# Altium schematic symbol library SemiConductor.SchLib: 127 symbols (part 1 of 2)
Pins are listed as number, name and electrical type; pins without a type are passive.

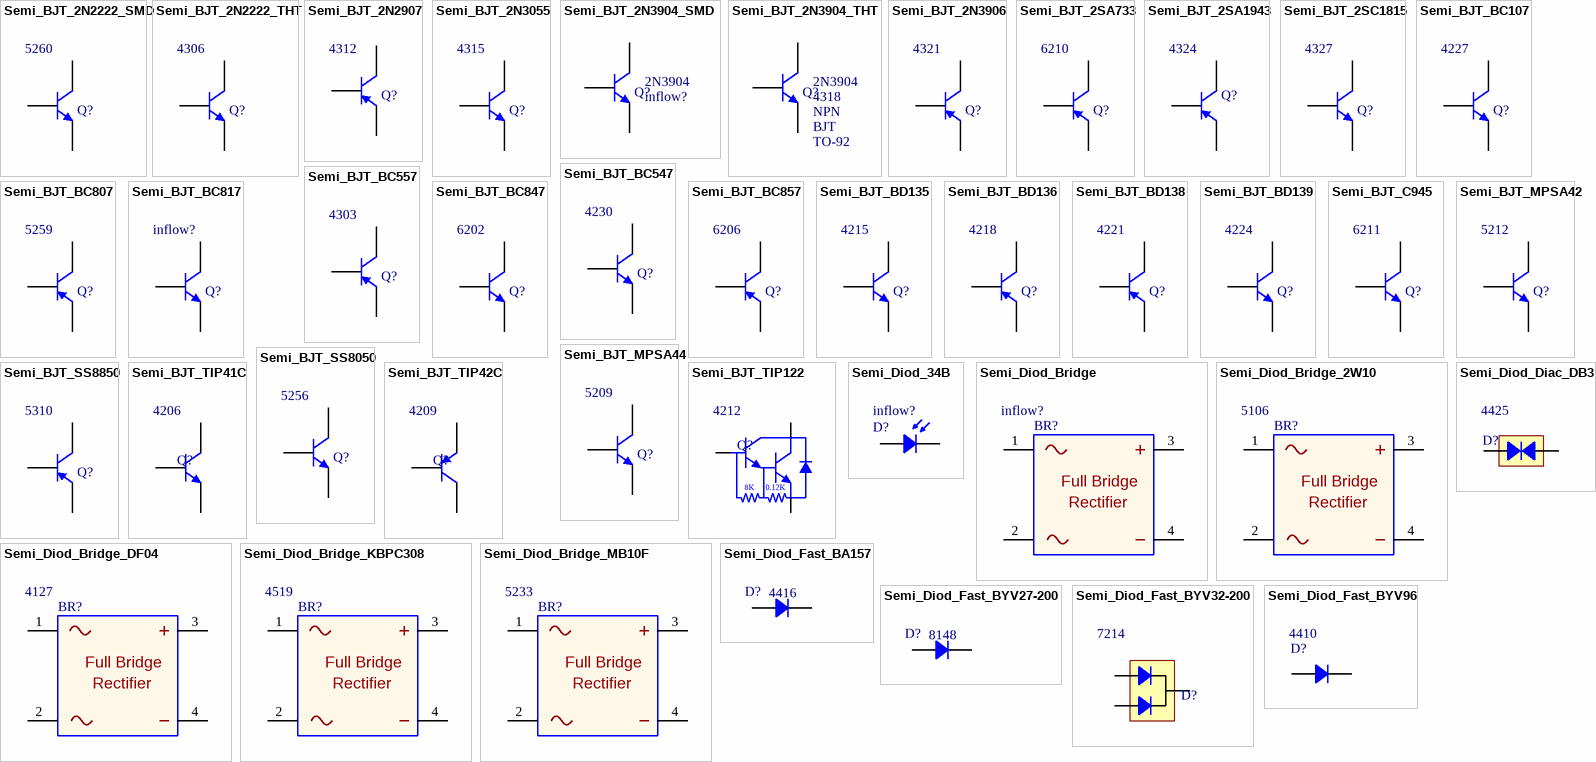
[diagram p0: symbols Semi_BJT_2N2222_SMD to Semi_Diod_Fast_BYV96]

## Semi_BJT_2N2222_SMD
designator Q?, comment Inflow: 5260  (hidden comment: NPN)
NPN Switching Transistors; Rating: Rating?; Type: Type?; Validation: Valid; Value: NPN; Package: Package?
footprint SOT23_N (SOT23, 3-Leads, Body 2.9x1.3mm, Pitch 0.95mm, Lead Span 2.3mm, IPC Medium Density)
footprint SOT23_L (SOT23, 3-Leads, Body 2.9x1.3mm, Pitch 0.95mm, Lead Span 2.3mm, IPC High Density)
footprint SOT23_M (SOT23, 3-Leads, Body 2.9x1.3mm, Pitch 0.95mm, Lead Span 2.3mm, IPC Low Density)
pins: 1 B, 2 E, 3 C

## Semi_BJT_2N2222_THT
designator Q?, comment Inflow: 4306  (hidden comment: NPN)
NPN Switching and AF amplifier applications; Rating: Rating?; Type: Type?; Validation: Valid; Value: NPN; Package: Package?
footprint TO-92 Bent (DESIGNER :ABBAS BASEREH)
footprint TO-92 CF (DESIGNER :ABBAS BASEREH)
footprint TO-92 STR (DESIGNER :ABBAS BASEREH)
pins: 1 E, 2 B, 3 C

## Semi_BJT_2N2907
designator Q?, comment Inflow: 4312  (hidden comment: PNP)
PNP General purpose amplifier; Rating: Rating?; Type: Type?; Validation: NT; Value: PNP; Package: Package?
footprint TO-92 Bent (DESIGNER :ABBAS BASEREH)
footprint TO-92 CF (DESIGNER :ABBAS BASEREH)
footprint TO-92 STR (DESIGNER :ABBAS BASEREH)
pins: 1 E, 2 B, 3 C

## Semi_BJT_2N3055
designator Q?, comment Inflow: 4315  (hidden comment: NPN)
NPN General purpose amplifier and switching applications; Rating: Rating?; Type: Type?; Validation: NT; Value: NPN; Package: Package?
footprint TO-3
pins: 1 E, 2 C, 3 B

## Semi_BJT_2N3904_SMD
designator Q?, comment Inflow: inflow?  (hidden comment: 2N3904)
NPN General purpose Transistor; Type: BJT; Validation: Valid; Package: SOT-23; Rating: NPN; Value: 2N3904
footprint SOT23_N (SOT23, 3-Leads, Body 2.9x1.3mm, Pitch 0.95mm, Lead Span 2.3mm, IPC Medium Density)
footprint SOT23_L (SOT23, 3-Leads, Body 2.9x1.3mm, Pitch 0.95mm, Lead Span 2.3mm, IPC High Density)
footprint SOT23_M (SOT23, 3-Leads, Body 2.9x1.3mm, Pitch 0.95mm, Lead Span 2.3mm, IPC Low Density)
pins: 1 B, 2 E, 3 C

## Semi_BJT_2N3904_THT
designator Q?, comment Type: BJT  Rating: NPN  Package: TO-92  Inflow: 4318  (hidden comment: 2N3904)
NPN General purpose amplifier; Validation: Valid; Value: 2N3904
footprint TO-92 Bent (DESIGNER :ABBAS BASEREH)
footprint TO-92 CF (DESIGNER :ABBAS BASEREH)
footprint TO-92 STR (DESIGNER :ABBAS BASEREH)
pins: 1 E, 2 B, 3 C

## Semi_BJT_2N3906
designator Q?, comment Inflow: 4321  (hidden comment: PNP)
PNP General Purpose Amplifier; Rating: Rating?; Type: Type?; Validation: NT; Value: PNP; Package: Package?
footprint TO-92 Bent (DESIGNER :ABBAS BASEREH)
footprint TO-92 CF (DESIGNER :ABBAS BASEREH)
footprint TO-92 STR (DESIGNER :ABBAS BASEREH)
pins: 1 E, 2 B, 3 C

## Semi_BJT_2SA733
designator Q?, comment Inflow: 6210  (hidden comment: PNP)
PNP Low frequncy amplifier; Rating: Rating?; Type: Type?; Validation: NT; Value: PNP; Package: Package?
footprint SOT23_N (SOT23, 3-Leads, Body 2.9x1.3mm, Pitch 0.95mm, Lead Span 2.3mm, IPC Medium Density)
footprint SOT23_L (SOT23, 3-Leads, Body 2.9x1.3mm, Pitch 0.95mm, Lead Span 2.3mm, IPC High Density)
footprint SOT23_M (SOT23, 3-Leads, Body 2.9x1.3mm, Pitch 0.95mm, Lead Span 2.3mm, IPC Low Density)
pins: 1 B, 2 E, 3 C

## Semi_BJT_2SA1943
designator Q?, comment Inflow: 4324  (hidden comment: PNP)
PNP Power amplifier applications; Rating: Rating?; Type: Type?; Validation: NT; Value: PNP; Package: Package?
footprint 2SA1943
pins: 1 B, 2 C, 3 E

## Semi_BJT_2SC1815
designator Q?, comment Inflow: 4327  (hidden comment: NPN)
NPN Audio frequency general purpose amplifier applications; Rating: Rating?; Type: Type?; Validation: NT; Value: NPN; Package: Package?
footprint TO-92 Bent (DESIGNER :ABBAS BASEREH)
footprint TO-92 CF (DESIGNER :ABBAS BASEREH)
footprint TO-92 STR (DESIGNER :ABBAS BASEREH)
pins: 1 B, 2 C, 3 E

## Semi_BJT_BC107
designator Q?, comment Inflow: 4227  (hidden comment: NPN)
NPN General purpose amplifier and switching applications; Rating: Rating?; Type: Type?; Validation: Valid; Value: NPN; Package: Package?
footprint TO-18 (Can; 3 Leads; Pin Circle Dia. 2.54 mm; Lead Dia. 0.48 mm (max))
pins: 1 E, 2 B, 3 C

## Semi_BJT_BC547
designator Q?, comment Inflow: 4230  (hidden comment: NPN)
NPN Switching; Rating: Rating?; Type: Type?; Validation: NT; Value: NPN; Package: Package?
footprint TO-92 Bent (DESIGNER :ABBAS BASEREH)
footprint TO-92 CF (DESIGNER :ABBAS BASEREH)
footprint TO-92 STR (DESIGNER :ABBAS BASEREH)
pins: 1 C, 2 B, 3 E

## Semi_BJT_BC557
designator Q?, comment Inflow: 4303  (hidden comment: PNP)
PNP Switching and Amplifier; Rating: Rating?; Type: Type?; Validation: NT; Value: PNP; Package: Package?
footprint TO-92 Bent (DESIGNER :ABBAS BASEREH)
footprint TO-92 CF (DESIGNER :ABBAS BASEREH)
footprint TO-92 STR (DESIGNER :ABBAS BASEREH)
pins: 1 C, 2 B, 3 E

## Semi_BJT_BC807
designator Q?, comment Inflow: 5259  (hidden comment: PNP)
PNP General purpose Transistor; Rating: Rating?; Type: Type?; Validation: NT; Value: PNP; Package: Package?
footprint SOT23_N (SOT23, 3-Leads, Body 2.9x1.3mm, Pitch 0.95mm, Lead Span 2.3mm, IPC Medium Density)
footprint SOT23_L (SOT23, 3-Leads, Body 2.9x1.3mm, Pitch 0.95mm, Lead Span 2.3mm, IPC High Density)
footprint SOT23_M (SOT23, 3-Leads, Body 2.9x1.3mm, Pitch 0.95mm, Lead Span 2.3mm, IPC Low Density)
pins: 1 B, 2 E, 3 C

## Semi_BJT_BC817
designator Q?, comment Inflow: inflow?  (hidden comment: NPN)
NPN General purpose Transistor; Rating: Rating?; Type: Type?; Validation: Valid; Value: NPN; Package: Package?
footprint SOT23_N (SOT23, 3-Leads, Body 2.9x1.3mm, Pitch 0.95mm, Lead Span 2.3mm, IPC Medium Density)
footprint SOT23_L (SOT23, 3-Leads, Body 2.9x1.3mm, Pitch 0.95mm, Lead Span 2.3mm, IPC High Density)
footprint SOT23_M (SOT23, 3-Leads, Body 2.9x1.3mm, Pitch 0.95mm, Lead Span 2.3mm, IPC Low Density)
pins: 1 B, 2 E, 3 C

## Semi_BJT_BC847
designator Q?, comment Inflow: 6202  (hidden comment: NPN)
NPN General purpose Transistor; Rating: Rating?; Type: Type?; Validation: NT; Value: NPN; Package: Package?
footprint SOT23_N (SOT23, 3-Leads, Body 2.9x1.3mm, Pitch 0.95mm, Lead Span 2.3mm, IPC Medium Density)
footprint SOT23_L (SOT23, 3-Leads, Body 2.9x1.3mm, Pitch 0.95mm, Lead Span 2.3mm, IPC High Density)
footprint SOT23_M (SOT23, 3-Leads, Body 2.9x1.3mm, Pitch 0.95mm, Lead Span 2.3mm, IPC Low Density)
pins: 1 B, 2 E, 3 C

## Semi_BJT_BC857
designator Q?, comment Inflow: 6206  (hidden comment: PNP)
PNP General purpose Transistor; Rating: Rating?; Type: Type?; Validation: NT; Value: PNP; Package: Package?
footprint SOT23_N (SOT23, 3-Leads, Body 2.9x1.3mm, Pitch 0.95mm, Lead Span 2.3mm, IPC Medium Density)
footprint SOT23_L (SOT23, 3-Leads, Body 2.9x1.3mm, Pitch 0.95mm, Lead Span 2.3mm, IPC High Density)
footprint SOT23_M (SOT23, 3-Leads, Body 2.9x1.3mm, Pitch 0.95mm, Lead Span 2.3mm, IPC Low Density)
pins: 1 B, 2 E, 3 C

## Semi_BJT_BD135
designator Q?, comment Inflow: 4215  (hidden comment: NPN)
NPN Medium power linear and switching applications; Rating: Rating?; Type: Type?; Validation: NT; Value: NPN; Package: Package?
footprint TO-126 (SOT32) GOLD pcb (Design:Abbas Basereh)
footprint TO-126 (SOT32) GOLD pcb with hatsink (Design:Abbas Basereh)
pins: 1 E, 2 C, 3 B

## Semi_BJT_BD136
designator Q?, comment Inflow: 4218  (hidden comment: PNP)
PNP General purpose complementary low voltage transistor; Rating: Rating?; Type: Type?; Validation: NT; Value: PNP; Package: Package?
footprint TO-126 (SOT32) GOLD pcb (Design:Abbas Basereh)
footprint TO-126 (SOT32) GOLD pcb with hatsink (Design:Abbas Basereh)
pins: 1 E, 2 C, 3 B

## Semi_BJT_BD138
designator Q?, comment Inflow: 4221  (hidden comment: PNP)
PNP Medium power linear and switching applications; Rating: Rating?; Type: Type?; Validation: NT; Value: PNP; Package: Package?
footprint TO-126 (SOT32) GOLD pcb (Design:Abbas Basereh)
footprint TO-126 (SOT32) GOLD pcb with hatsink (Design:Abbas Basereh)
pins: 1 E, 2 C, 3 B

## Semi_BJT_BD139
designator Q?, comment Inflow: 4224  (hidden comment: NPN)
NPN Medium power linear and switching applications; Rating: Rating?; Type: Type?; Validation: NT; Value: NPN; Package: Package?
footprint TO-126 (SOT32) GOLD pcb (Design:Abbas Basereh)
footprint TO-126 (SOT32) GOLD pcb with hatsink (Design:Abbas Basereh)
pins: 1 E, 2 C, 3 B

## Semi_BJT_C945
designator Q?, comment Inflow: 6211  (hidden comment: NPN)
NPN Silicon Epitaxial Planar Transistor; Rating: Rating?; Type: Type?; Validation: NT; Value: NPN; Package: Package?
footprint SOT23_N (SOT23, 3-Leads, Body 2.9x1.3mm, Pitch 0.95mm, Lead Span 2.3mm, IPC Medium Density)
footprint SOT23_L (SOT23, 3-Leads, Body 2.9x1.3mm, Pitch 0.95mm, Lead Span 2.3mm, IPC High Density)
footprint SOT23_M (SOT23, 3-Leads, Body 2.9x1.3mm, Pitch 0.95mm, Lead Span 2.3mm, IPC Low Density)
pins: 1 B, 2 E, 3 C

## Semi_BJT_MPSA42
designator Q?, comment Inflow: 5212  (hidden comment: NPN)
NPN High voltage transistor; Rating: Rating?; Type: Type?; Validation: NT; Value: NPN; Package: Package?
footprint TO-92 Bent (DESIGNER :ABBAS BASEREH)
footprint TO-92 CF (DESIGNER :ABBAS BASEREH)
footprint TO-92 STR (DESIGNER :ABBAS BASEREH)
pins: 1 E, 2 B, 3 C

## Semi_BJT_MPSA44
designator Q?, comment Inflow: 5209  (hidden comment: NPN)
NPN High voltage transistor; Rating: Rating?; Type: Type?; Validation: NT; Value: NPN; Package: Package?
footprint TO-92 Bent (DESIGNER :ABBAS BASEREH)
footprint TO-92 CF (DESIGNER :ABBAS BASEREH)
footprint TO-92 STR (DESIGNER :ABBAS BASEREH)
pins: 1 E, 2 B, 3 C

## Semi_BJT_SS8050
designator Q?, comment Inflow: 5256  (hidden comment: NPN)
NPN General purpose Transistor; Rating: Rating?; Type: Type?; Validation: Valid; Value: NPN; Package: Package?
footprint SOT23_N (SOT23, 3-Leads, Body 2.9x1.3mm, Pitch 0.95mm, Lead Span 2.3mm, IPC Medium Density)
footprint SOT23_L (SOT23, 3-Leads, Body 2.9x1.3mm, Pitch 0.95mm, Lead Span 2.3mm, IPC High Density)
footprint SOT23_M (SOT23, 3-Leads, Body 2.9x1.3mm, Pitch 0.95mm, Lead Span 2.3mm, IPC Low Density)
pins: 1 B, 2 E, 3 C

## Semi_BJT_SS8850
designator Q?, comment Inflow: 5310  (hidden comment: PNP)
PNP General Purpose Amplifier; Rating: Rating?; Type: Type?; Validation: NT; Value: PNP; Package: Package?
footprint TO-92 Bent (DESIGNER :ABBAS BASEREH)
footprint TO-92 CF (DESIGNER :ABBAS BASEREH)
footprint TO-92 STR (DESIGNER :ABBAS BASEREH)
pins: 1 E, 2 C, 3 B

## Semi_BJT_TIP41C
designator Q?, comment Inflow: 4206  (hidden comment: NPN)
NPN Power transistor; Rating: Rating?; Type: Type?; Validation: NT; Value: NPN; Package: Package?
footprint TO-220 AB WITH HEAT SINK (Epoxy meets UL94, V0)
footprint TO-220 AB (Epoxy meets UL94, V0)
footprint TO-220 AB S (Epoxy meets UL94, V0)
footprint TO-220 AB WITH HEAT SINK ASM
footprint TO-220 AB with heatsink ya25 (Epoxy meets UL94, V0-Design:Abbas Basereh)
pins: 1 B, 2 C, 3 E

## Semi_BJT_TIP42C
designator Q?, comment Inflow: 4209  (hidden comment: PNP)
PNP Power transistor; Rating: Rating?; Type: Type?; Validation: NT; Value: PNP; Package: Package?
footprint TO-220 AB WITH HEAT SINK (Epoxy meets UL94, V0)
footprint TO-220 AB (Epoxy meets UL94, V0)
footprint TO-220 AB S (Epoxy meets UL94, V0)
footprint TO-220 AB WITH HEAT SINK ASM
footprint TO-220 AB with heatsink ya25 (Epoxy meets UL94, V0-Design:Abbas Basereh)
pins: 1 B, 2 C, 3 E

## Semi_BJT_TIP122
designator Q?, comment Inflow: 4212  (hidden comment: NPN)
NPN Power transistor; Rating: Rating?; Type: Type?; Validation: NT; Value: NPN; Package: Package?
footprint TO-220 AB WITH HEAT SINK (Epoxy meets UL94, V0)
footprint TO-220 AB (Epoxy meets UL94, V0)
footprint TO-220 AB S (Epoxy meets UL94, V0)
footprint TO-220 AB WITH HEAT SINK ASM
footprint TO-220 AB with heatsink ya25 (Epoxy meets UL94, V0-Design:Abbas Basereh)
pins: 1 B, 2 C, 3 E
text: 8K; 0.12K

## Semi_Diod_34B
designator D?, comment Inflow: inflow?  (hidden comment: Value?)
Photodiode; Rating: Rating?; Type: Type?; Validation: NT; Value: Value?; Package: Package?
footprint 34b
pins: 1, 2

## Semi_Diod_Bridge
designator BR?, comment Inflow: inflow?  (hidden comment: Value?)
Full Wave Diode Bridge; Rating: Rating?; Validation: Valid; Value: Value?; Package: Package?; Type: Type?
footprint DB107
footprint KBL4 (6mm; 19mm)
footprint Pool1
footprint Pool2
footprint Pool 3
footprint D-38 (Bridge Rectifier; 4 Terminals; Body 9.4 x 9.4 mm (typ); Pitch 5.08 mm)
footprint D-46_6A (Bridge Rectifier; 4 Terminals; Body 16.8 x 16.8 mm (typ); Pitch 10.67 mm)
footprint Bridge
footprint Diode bridge
footprint Bridge GBU PACKAGE (GBU Bridge Rectifiers DESIGNER :ABBAS BASEREH)
footprint Bridge KBJ PACKAGE (KBJ Bridge Rectifiers DESIGNER :ABBAS BASEREH)
footprint Bridge KBL PACKAGE (KBL Bridge Rectifiers DESIGNER :ABBAS BASEREH)
footprint Bridge KBP PACKAGE (KBP Bridge Rectifiers DESIGNER :ABBAS BASEREH)
footprint Bridge KBU PACKAGE (KBU Bridge Rectifiers DESIGNER :ABBAS BASEREH)
footprint Bridge WOB PACKAGE (WOB Bridge Rectifiers DESIGNER :ABBAS BASEREH)
footprint DF005S (MINIATURE GLASS PASSIVATED SINGLE-PHASE SURFACE MOUNT  BRIDGE RECTIFIER-Design:Abbas Basereh)
pins: 1 VIN, 2 VIN, 3 OUT, 4 OUT
text: Full Bridge; Rectifier

## Semi_Diod_Bridge_2W10
designator BR?, comment Inflow: 5106  (hidden comment: 1000'V, 1.5'A)
Full Wave Diode Bridge; Rating: Rating?; Validation: Valid; Value: 1000'V, 1.5'A; Package: Package?; Type: Type?
footprint Bridge
pins: 1 VIN, 2 VIN, 3 OUT, 4 OUT
text: Full Bridge; Rectifier

## Semi_Diod_Bridge_DF04
designator BR?, comment Inflow: 4127  (hidden comment: 400'V, 1'A)
Full Wave Diode Bridge; Rating: Rating?; Validation: Valid; Value: 400'V, 1'A; Package: Package?; Type: Type?
footprint DB107
pins: 1 VIN, 2 VIN, 3 OUT, 4 OUT
text: Full Bridge; Rectifier

## Semi_Diod_Bridge_KBPC308
designator BR?, comment Inflow: 4519  (hidden comment: 800'V, 3'A)
Full Wave Diode Bridge; Rating: Rating?; Validation: NT; Value: 800'V, 3'A; Package: Package?; Type: Type?
footprint D-46_6A (Bridge Rectifier; 4 Terminals; Body 16.8 x 16.8 mm (typ); Pitch 10.67 mm)
pins: 1 VIN, 2 VIN, 3 OUT, 4 OUT
text: Full Bridge; Rectifier

## Semi_Diod_Bridge_MB10F
designator BR?, comment Inflow: 5233  (hidden comment: 1000'V, 0.8'A)
Full Wave Diode Bridge; Rating: Rating?; Validation: NT; Value: 1000'V, 0.8'A; Package: Package?; Type: Type?
footprint DF005S (MINIATURE GLASS PASSIVATED SINGLE-PHASE SURFACE MOUNT  BRIDGE RECTIFIER-Design:Abbas Basereh)
pins: 1 VIN, 2 VIN, 3 OUT, 4 OUT
text: Full Bridge; Rectifier

## Semi_Diod_Diac_DB3
designator D?, comment Inflow: 4425  (hidden comment: DB3)
Schottky Rectifiers; Rating: Rating?; Type: Type?; Validation: NT; Value: DB3; Package: Package?
footprint Do 35 (Diode)
pins: 1, 2

## Semi_Diod_Fast_BA157
designator D?, comment Inflow: 4416  (hidden comment: BA157)
Fast switching rectifiers; Rating: Rating?; Type: Type?; Validation: NT; Value: BA157; Package: Package?
footprint Do-41 (Diode, Axial; Body 5.2 x 2.7 mm (LxDia. max), Lead Dia. 0.86 mm (max))
pins: 1, 2

## Semi_Diod_Fast_BYV27-200
designator D?, comment Inflow: 8148  (hidden comment: BYV27-200)
Ultra fast low-loss controlled avalanche rectifiers; Rating: Rating?; Type: Type?; Validation: NT; Value: BYV27-200; Package: Package?
footprint Diode (Diode, Axial; Body 5.2 x 2.7 mm (LxDia. max), Lead Dia. 0.86 mm (max))
pins: 1, 2

## Semi_Diod_Fast_BYV32-200
designator D?, comment Inflow: 7214  (hidden comment: BYV32-200)
Fast switching rectifiers; Rating: Rating?; Type: Type?; Validation: NT; Value: BYV32-200; Package: Package?
footprint TO-220 AB (Epoxy meets UL94, V0-Design:Abbas Basereh)
footprint TO-220 AB S (Epoxy meets UL94, V0-Design:Abbas Basereh)
footprint TO-220 AB WITH HEAT SINK (Epoxy meets UL94, V0-Design:Abbas Basereh)
footprint TO-220 AB WITH HEAT SINK ASM (-Design:Abbas Basereh)
footprint TO-220 AB with heatsink ya25 (Epoxy meets UL94, V0-Design:Abbas Basereh)
pins: 1, 2, 3

## Semi_Diod_Fast_BYV96
designator D?, comment Inflow: 4410  (hidden comment: BYV96)
Fast soft recovery controlled avalanche rectifiers; Rating: Rating?; Type: Type?; Validation: NT; Value: BYV96; Package: Package?
footprint DO-201AD - vertical (Designer Abbas Basereh)
footprint BYW98
pins: 1, 2

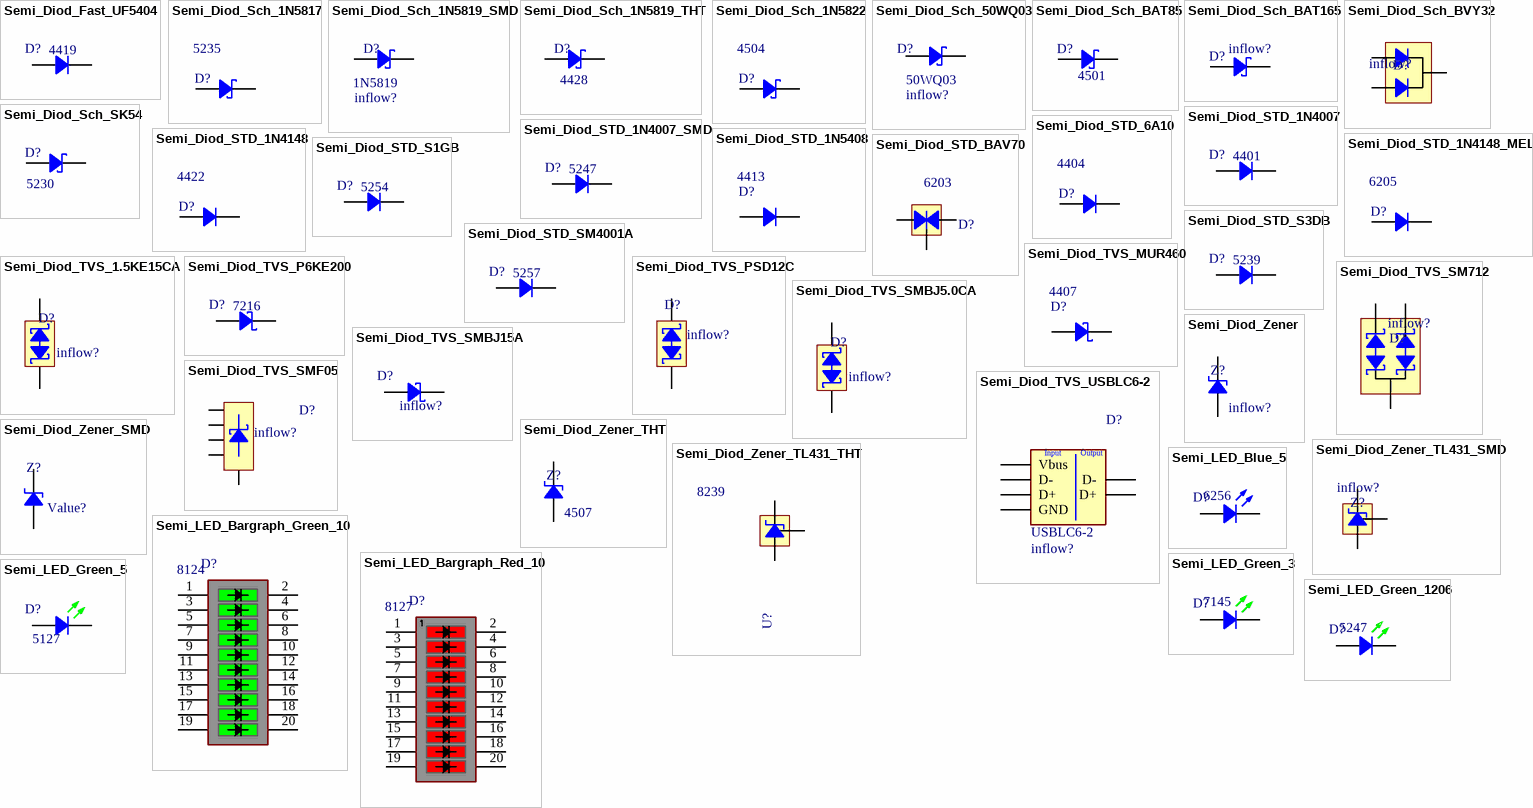
[diagram p1: symbols Semi_Diod_Fast_UF5404 to Semi_LED_Green_1206]

## Semi_Diod_Fast_UF5404
designator D?, comment Inflow: 4419  (hidden comment: UF5404)
Fast switching rectifiers; Rating: Rating?; Type: Type?; Validation: NT; Value: UF5404; Package: Package?
footprint Do-201AD - vertical (Designer Abbas Basereh)
footprint BYW98
pins: 1, 2

## Semi_Diod_Sch_1N5817
designator D?, comment Inflow: 5235  (hidden comment: 1N5817)
Schottky Rectifiers; Rating: Rating?; Type: Type?; Validation: NT; Value: 1N5817; Package: Package?
footprint DO214AC SMA (Molded Diode, 2-Leads, Body 4.30x2.60mm, IPC Medium Density)
pins: 1, 2

## Semi_Diod_Sch_1N5819_SMD
designator D?, comment Inflow: inflow?  (hidden comment: 1N5819)
Schottky Rectifiers; Rating: Rating?; Validation: Valid; Package: SMA; Type: Schottky; Value: 1N5819
footprint 430X270D (SMA Molded Diode, 2-Leads, Body 4.3x2.7mm)
footprint diode (Diode, Axial; Body 5.2 x 2.7 mm (LxDia. max), Lead Dia. 0.86 mm (max))
pins: 1, 2

## Semi_Diod_Sch_1N5819_THT
designator D?, comment Inflow: 4428  (hidden comment: 1N5819)
Schottky Rectifiers; Rating: Rating?; Validation: NT; Value: 1N5819; Package: Dip; Type: Schottky
footprint 430X270D (SMA Molded Diode, 2-Leads, Body 4.3x2.7mm)
footprint diode (Diode, Axial; Body 5.2 x 2.7 mm (LxDia. max), Lead Dia. 0.86 mm (max))
pins: 1, 2

## Semi_Diod_Sch_1N5822
designator D?, comment Inflow: 4504  (hidden comment: 1N5822)
Schottky Rectifiers; Rating: Rating?; Type: Type?; Validation: NT; Value: 1N5822; Package: Package?
footprint DIOM7568X24N (Molded Diode, 2-Leads, Body 7/50x6/80mm, IPC Medium Density)
footprint DO-214AB(SMC) (Molded Diode, 2-Leads, Body 6/85x5/90mm, IPC Medium Density DESIGNER ABBAS BASEREH)
footprint BYW98
footprint DO-201AD - vertical (Designer Abbas Basereh)
pins: 1, 2

## Semi_Diod_Sch_50WQ03
designator D?, comment Inflow: inflow?  (hidden comment: 50WQ03)
Fast soft recovery power rectifier; Rating: Rating?; Type: Schottky; Validation: NT; Package: TO-252; Value: 50WQ03
footprint 50WQ03 (D-PAK/TO-252-AA; 3 Leads (1 Cropped); Body 10.1 (inc. leads) x 6.6 mm (LxW max))
pins: 1, 2

## Semi_Diod_Sch_BAT85
designator D?, comment Inflow: 4501  (hidden comment: BAT85)
Schottky Rectifiers; Rating: Rating?; Validation: NT; Value: BAT85; Package: DO-35; Type: Schottky
footprint Do 35 (Diode)
pins: 1, 2

## Semi_Diod_Sch_BAT165
designator D?, comment Inflow: inflow?  (hidden comment: BAT165)
Schottky Rectifiers; Rating: Rating?; Type: Type?; Validation: NT; Value: BAT165; Package: Package?
footprint SOD323 (SOD-323; 2 Leads; Body 1.8 x 1.35 mm, (LxW))
pins: 1, 2

## Semi_Diod_Sch_BVY32
designator D?, comment Inflow: inflow?  (hidden comment: BYV32-200)
Fast soft recovery power rectifier; Rating: Rating?; Type: Type?; Validation: Valid; Value: BYV32-200; Package: Package?
footprint TO-220 AB (Epoxy meets UL94, V0)
footprint TO-220 AB S (Epoxy meets UL94, V0)
footprint TO-220 AB WITH HEAT SINK (Epoxy meets UL94, V0)
footprint TO-220 AB WITH HEAT SINK ASM
footprint TO-220 AB with heatsink ya25 (Epoxy meets UL94, V0-Design:Abbas Basereh)
pins: 1, 2, 3

## Semi_Diod_Sch_SK54
designator D?, comment Inflow: 5230  (hidden comment: SK54)
Schottky Rectifiers; Rating: Rating?; Validation: Valid; Type: Schottky; Package: SMC; Value: SK54
footprint DO-214AB(SMC) (Molded Diode, 2-Leads, Body 6/85x5/90mm, IPC Medium Density DESIGNER ABBAS BASEREH)
pins: 1, 2

## Semi_Diod_STD_1N4007
designator D?, comment Inflow: 4401  (hidden comment: 1N4007)
General purpose rectifiers; Rating: Rating?; Type: Type?; Validation: Valid; Value: 1N4007; Package: Package?
footprint SOD123F (SODFL, 2-Leads, Body 1.60x3.50mm, IPC Medium Density)
footprint SOD323F (SODFL, 2-Leads, Body 1.25x2.50mm, IPC Medium Density)
footprint SOD523F (SODFL, 2-Leads, Body 0.80x1.60mm, IPC Medium Density)
footprint SOD-123 (SOD, 2-Leads, Body 1.55x3.70mm, IPC Medium Density)
footprint DO214AB SMC (Molded Diode, 2-Leads, Body 6.85x5.90mm, IPC Medium Density)
footprint DO214AC SMA (Molded Diode, 2-Leads, Body 4.30x2.60mm, IPC Medium Density)
footprint Diode (Diode, Axial; Body 5.2 x 2.7 mm (LxDia. max), Lead Dia. 0.86 mm (max))
footprint Diode_SS34
footprint DO214AA SMB (Molded Diode, 2-Leads, Body 4.31x3.62mm, IPC Medium Density)
pins: 1, 2

## Semi_Diod_STD_1N4007_SMD
designator D?, comment Inflow: 5247  (hidden comment: 1N4007)
General purpose rectifiers; Rating: Rating?; Type: Type?; Validation: Valid; Value: 1N4007; Package: Package?
footprint DO214AC SMA (Molded Diode, 2-Leads, Body 4.30x2.60mm, IPC Medium Density)
pins: 1, 2

## Semi_Diod_STD_1N4148
designator D?, comment Inflow: 4422  (hidden comment: 1N4148)
High Conductance Fast Diode; Rating: Rating?; Type: Type?; Validation: NT; Value: 1N4148; Package: Package?
footprint DO-35 (Diode, Axial; Body 3.8 x 1.9 mm (LxDia. max), Lead Dia. 0.53 mm (max))
footprint LL4148 (MELF Diode, 2-Leads, Body 3.5x1.4mm, IPC Medium Density)
footprint Do 35 (Diode)
footprint SOD323 (SOD-323; 2 Leads; Body 1.8 x 1.35 mm, (LxW))
footprint SOD123 (SOD-123; 2 Leads; Body 2.7 x 1.6 mm, (LxW))
footprint SOD80, LL-34 (Diode, MiniMELF)
pins: 1, 2

## Semi_Diod_STD_1N4148_MELF
designator D?, comment Inflow: 6205  (hidden comment: 1N4148)
High Conductance Fast Diode; Rating: Rating?; Type: Type?; Validation: NT; Value: 1N4148; Package: Package?
footprint LL4148 (MELF Diode, 2-Leads, Body 3.5x1.4mm, IPC Medium Density)
pins: 1, 2

## Semi_Diod_STD_1N5408
designator D?, comment Inflow: 4413  (hidden comment: 1N5408)
General purpose rectifiers; Rating: Rating?; Type: Type?; Validation: NT; Value: 1N5408; Package: Package?
footprint 1N5408
footprint 1N5408 DO-201AD (Designer Abbas Basereh)
footprint DO-201AD - vertical (Designer Abbas Basereh)
footprint DO-201AD (Diode, Axial; Body 9.5 x 5.6 mm (LxDia. max), Lead Dia. 1.32 mm (max))
pins: 1, 2

## Semi_Diod_STD_6A10
designator D?, comment Inflow: 4404  (hidden comment: 6A10)
3 Amp General Purpose Rectifier; Rating: Rating?; Type: Type?; Validation: Valid; Value: 6A10; Package: Package?
footprint R-6
pins: 1, 2

## Semi_Diod_STD_BAV70
designator D?, comment Inflow: 6203  (hidden comment: BAV70)
General purpose rectifiers; Rating: Rating?; Type: Type?; Validation: NT; Value: BAV70; Package: Package?
footprint SOT23_BEC_N (SOT23, 3-Leads, Body 2.9x1.3mm, Pitch 0.95mm, Lead Span 2.4mm, IPC Medium Density)
footprint SOT23_BEC_L (SOT23, 3-Leads, Body 2.9x1.3mm, Pitch 0.95mm, Lead Span 2.4mm, IPC High Density)
footprint SOT23_BEC_M (SOT23, 3-Leads, Body 2.9x1.3mm, Pitch 0.95mm, Lead Span 2.4mm, IPC Low Density)
pins: 1, 2, 3

## Semi_Diod_STD_S1GB
designator D?, comment Inflow: 5254  (hidden comment: S1GB)
General purpose rectifiers; Rating: Rating?; Type: Type?; Validation: NT; Value: S1GB; Package: Package?
footprint DO214AA SMB (Molded Diode, 2-Leads, Body 4.31x3.62mm, IPC Medium Density)
pins: 1, 2

## Semi_Diod_STD_S3DB
designator D?, comment Inflow: 5239  (hidden comment: S3DB)
General purpose rectifiers; Rating: Rating?; Type: Type?; Validation: NT; Value: S3DB; Package: Package?
footprint DO214AA SMB (Molded Diode, 2-Leads, Body 4.31x3.62mm, IPC Medium Density)
pins: 1, 2

## Semi_Diod_STD_SM4001A
designator D?, comment Inflow: 5257  (hidden comment: SM4001A)
General purpose rectifiers; Rating: Rating?; Type: Type?; Validation: NT; Value: SM4001A; Package: Package?
footprint DO214AC SMA (Molded Diode, 2-Leads, Body 4.30x2.60mm, IPC Medium Density)
pins: 1, 2

## Semi_Diod_TVS_1.5KE15CA
designator D?, comment Inflow: inflow?  (hidden comment: 1.5KE15CA)
TVS Diode; Rating: 15V; Validation: Valid; Value: 1.5KE15CA; Package: TO-92; Type: TVS
footprint DO-201AD (Diode, Axial; Body 9.5 x 5.6 mm (LxDia. max), Lead Dia. 1.32 mm (max))
pins: 1, 2

## Semi_Diod_TVS_MUR460
designator D?, comment Inflow: 4407  (hidden comment: MUR460)
TVS Diode; Rating: Rating?; Type: Type?; Validation: NT; Value: MUR460; Package: Package?
footprint DO-201AD - vertical (Designer Abbas Basereh)
footprint BYW98
pins: 1, 2

## Semi_Diod_TVS_P6KE200
designator D?, comment Inflow: 7216  (hidden comment: P6KE200)
Transil diodes provide high overvoltage protection by clamping action; Rating: Rating?; Type: Type?; Validation: NT; Value: P6KE200; Package: Package?
footprint DO-15
pins: 1, 2

## Semi_Diod_TVS_PSD12C
designator D?, comment Inflow: inflow?  (hidden comment: PSD12C)
Transil diodes provide high overvoltage protection by clamping action; Rating: 12V; Type: TVS; Validation: NT; Value: PSD12C; Package: SMB
footprint SOD323 (SOD-323; 2 Leads; Body 1.8 x 1.35 mm, (LxW))
pins: 1, 2

## Semi_Diod_TVS_SM712
designator D?, comment Inflow: inflow?  (hidden comment: SM712)
TVS, ESD PROTECT, 2CH, 400W/17A PP, 7.5VBR, ±8KV ESDmin; Rating: Rating?; Type: Type?; Validation: Valid; Value: SM712; Package: Package?
footprint SOT23_L (SOT23, 3-Leads, Body 2.9x1.3mm, Pitch 0.95mm, Lead Span 2.3mm, IPC High Density)
footprint SOT23_N (SOT23, 3-Leads, Body 2.9x1.3mm, Pitch 0.95mm, Lead Span 2.3mm, IPC Medium Density)
footprint SOT23_M (SOT23, 3-Leads, Body 2.9x1.3mm, Pitch 0.95mm, Lead Span 2.3mm, IPC Low Density)
pins: 1, 2, 3

## Semi_Diod_TVS_SMBJ5.0CA
designator D?, comment Inflow: inflow?  (hidden comment: SMBJ5.0CA)
TVS Diode; Rating: 5V; Validation: Valid; Value: SMBJ5.0CA; Package: SMA; Type: TVS
footprint DO-214AC (DO-214AC(SMA) Package)
pins: 1, 2

## Semi_Diod_TVS_SMBJ15A
designator D?, comment Inflow: inflow?  (hidden comment: SMBJ15A)
Transil diodes provide high overvoltage protection by clamping action; Rating: 15V; Type: TVS; Validation: Valid; Value: SMBJ15A; Package: SMB
footprint DO214AA SMB (Molded Diode, 2-Leads, Body 4.31x3.62mm, IPC Medium Density)
pins: 1, 2

## Semi_Diod_TVS_SMF05
designator D?, comment Inflow: inflow?  (hidden comment: SMF-05)
TVS Diode Array; Rating: Rating?; Validation: Valid; Type: TVS; Value: SMF-05; Package: SC70-5
footprint SC70-5_N (SOT353, 5-Leads, Body 2x1.3mm, Pitch 0.65mm, Lead Span 2.1mm, IPC Medium Density)
pins: 1 K, 2 K, 3 K, 4 K, 5 K

## Semi_Diod_TVS_USBLC6-2
designator D?, comment Inflow: inflow?  (hidden comment: USBLC6-2)
Very low capacitance ESD protection; Rating: 5V; Type: TVS; Validation: NT; Package: SOT-23; Value: USBLC6-2
footprint SOT666 (SOP, 6-Flat Leads, Body 1.6x1.6x0.6mm, inc leads (LxWxH typ), Pitch 0.5mm, ST Recommended)
pins: 1 D+, 2 GND, 3 D-, 4 D-, 5 Vbus, 6 D+
text: Input; Output

## Semi_Diod_Zener
designator Z?, comment Inflow: inflow?  (hidden comment: Value?)
Zener Diode; Rating: Rating?; Validation: Valid; Value: Value?; Package: Package?; Type: Type?
footprint Diode 1W
footprint Diode 1W_Stand
footprint SOD123F (SODFL, 2-Leads, Body 1.60x3.50mm, IPC Medium Density)
footprint DO-35 (Diode, Axial; Body 3.8 x 1.9 mm (LxDia. max), Lead Dia. 0.53 mm (max))
footprint DO 35 (Diode)
footprint SOD123 (SOD-123; 2 Leads; Body 2.7 x 1.6 mm, (LxW))
footprint SOD323 (SOD-323; 2 Leads; Body 1.8 x 1.35 mm, (LxW))
footprint SOD80, LL-34 (Diode, MiniMELF)
pins: 1, 2

## Semi_Diod_Zener_SMD
designator Z?, comment Value?
Zener Diode; Rating: Rating?; Inflow: inflow?; Validation: Valid; Type: Zener; Package: SOD-80; Value: Value?
footprint SOD80, LL-34 (Diode, MiniMELF)
pins: 1, 2

## Semi_Diod_Zener_THT
designator Z?, comment Inflow: 4507  (hidden comment: 3.3'V, 0.5'W)
Zener Diode; Rating: Rating?; Validation: Valid; Value: 3.3'V, 0.5'W; Package: Package?; Type: Type?
footprint DO 35 (Diode)
pins: 1, 2

## Semi_Diod_Zener_TL431_SMD
designator Z?, comment Inflow: inflow?  (hidden comment: TL431 (Texas))
VREF, Programmable Precision ( Texas); Rating: Rating?; Validation: Valid; Value: TL431 (Texas); Package: Package?; Type: Type?
footprint sot23_BeC_L (SOT23, 3-Leads, Body 2.9x1.3mm, Pitch 0.95mm, Lead Span 2.4mm, IPC High Density)
footprint sot23_BeC_N (SOT23, 3-Leads, Body 2.9x1.3mm, Pitch 0.95mm, Lead Span 2.4mm, IPC Medium Density)
footprint sot23_BeC_M (SOT23, 3-Leads, Body 2.9x1.3mm, Pitch 0.95mm, Lead Span 2.4mm, IPC Low Density)
pins: 1 K, 2 REF, 3 A

## Semi_Diod_Zener_TL431_THT
designator U?, comment Inflow: 8239  (hidden comment: Adj, 0.1'A)
Adjustable shunt regulator; Rating: Rating?; Validation: Valid; Value: Adj, 0.1'A; Package: Package?; Type: Type?
footprint TO-92 BENT (DESIGNER :ABBAS BASEREH)
footprint TO-92 CF (DESIGNER :ABBAS BASEREH)
footprint TO-92 STR (DESIGNER :ABBAS BASEREH)
pins: 1 REF, 2 A, 3 K

## Semi_LED_Bargraph_Green_10
designator D?, comment Inflow: 8124  (hidden comment: 10'bit, Green)
Bargraph leds x10; Rating: Rating?; Type: Type?; Validation: Valid; Value: 10'bit, Green; Package: Package?
footprint LEDBARX10_Green (LED BAR GRAPH, pitch: 2.54mm,  CLSRD10A SSA-LXB10HW-GF)
pins: 1 A1, 2 B1, 3 A2, 4 B2, 5 A3, 6 B3, 7 A4, 8 B4, 9 A5, 10 B5, 11 A6, 12 B6, 13 A7, 14 B7, 15 A8, 16 B8, 17 A9, 18 B9, 19 A10, 20 B10

## Semi_LED_Bargraph_Red_10
designator D?, comment Inflow: 8127  (hidden comment: 10'bit, Red)
Bargraph leds x10; Rating: Rating?; Type: Type?; Validation: Valid; Value: 10'bit, Red; Package: Package?
footprint LEDBARX10_Red (Footprint not found)
pins: 1 A1, 2 B1, 3 A2, 4 B2, 5 A3, 6 B3, 7 A4, 8 B4, 9 A5, 10 B5, 11 A6, 12 B6, 13 A7, 14 B7, 15 A8, 16 B8, 17 A9, 18 B9, 19 A10, 20 B10

## Semi_LED_Blue_5
designator D?, comment Inflow: 6256  (hidden comment: Blue, 5'mm)
LED; Rating: Rating?; Type: Type?; Validation: Valid; Value: Blue, 5'mm; Package: Package?
footprint led5mm_blue
pins: 1, 2

## Semi_LED_Green_3
designator D?, comment Inflow: 7145  (hidden comment: Green, 3'mm)
LED; Rating: Rating?; Type: Type?; Validation: Valid; Value: Green, 3'mm; Package: Package?
footprint led-3mm
pins: 1, 2

## Semi_LED_Green_5
designator D?, comment Inflow: 5127  (hidden comment: Green)
LED; Rating: 20mA; Type: 5mm; Validation: Valid; Value: Green; Package: Dip
footprint LED5MM_GRN (LED 5MM THROUGH HOLE GREEN-Designer Abbas Basereh)
pins: 1, 2

## Semi_LED_Green_1206
designator D?, comment Inflow: 5247  (hidden comment: Green, 1206)
LED; Rating: Rating?; Type: Type?; Validation: Valid; Value: Green, 1206; Package: Package?
footprint LED 1206/3216 GREEN (Chip Diode, 2-Leads, Body 3.13x1.55mm, IPC Medium Density)
pins: 1, 2

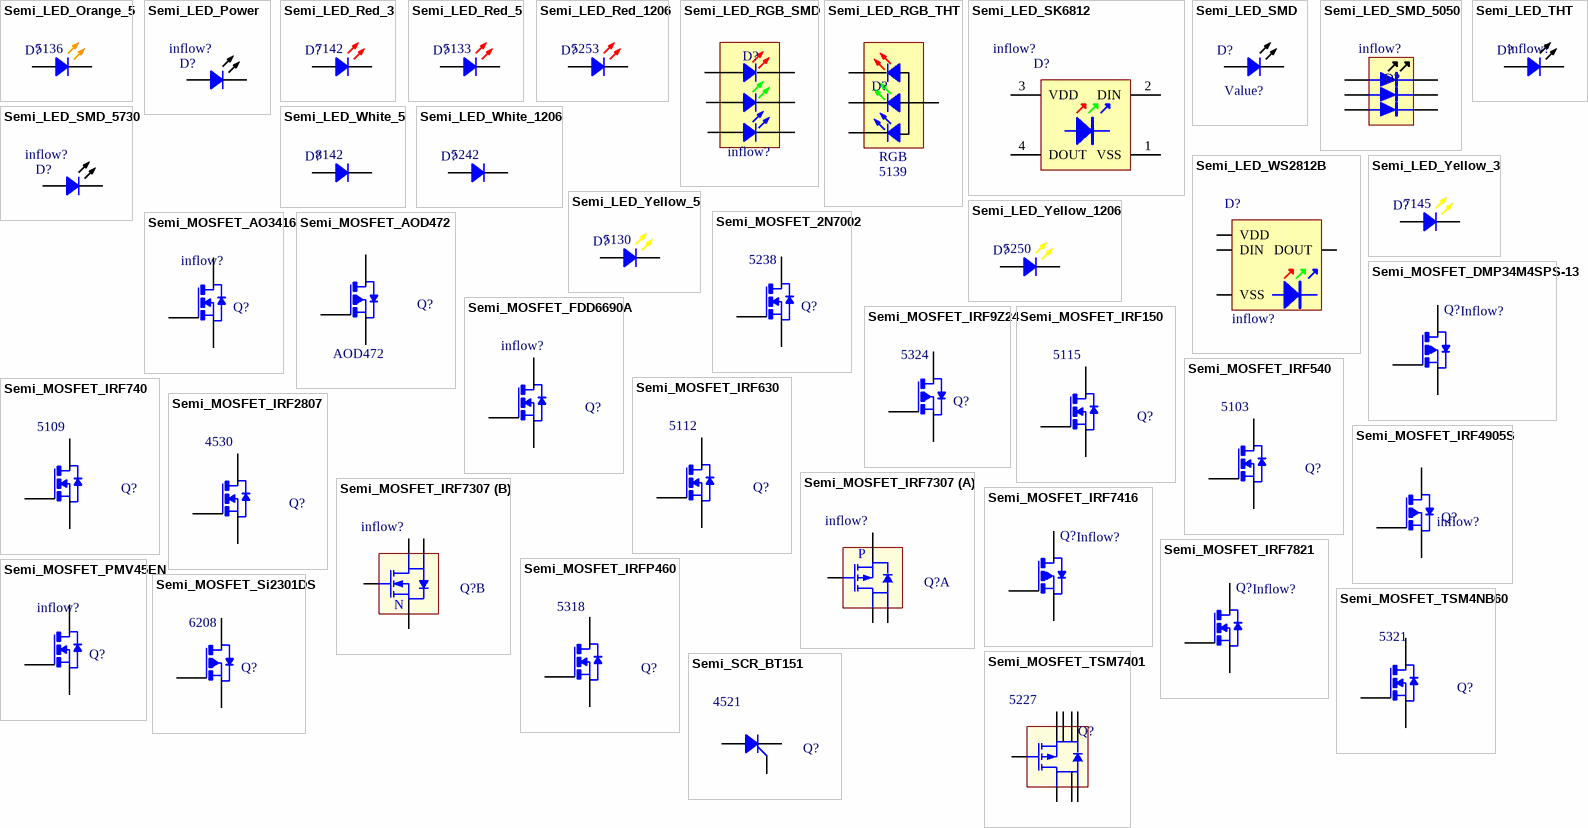
[diagram p2: symbols Semi_LED_Orange_5 to Semi_SCR_BT151]

## Semi_LED_Orange_5
designator D?, comment Inflow: 5136  (hidden comment: Orange, 5'mm)
LED; Rating: Rating?; Type: Type?; Validation: Valid; Value: Orange, 5'mm; Package: Package?
footprint led5mm_orange
pins: 1, 2

## Semi_LED_Power
designator D?, comment Inflow: inflow?  (hidden comment: 3'Watt)
POWER LED SMD; Rating: Rating?; Type: Type?; Validation: NT; Value: 3'Watt; Package: Package?
footprint POWER LED 3WATT (DESIGNER : ABBAS BASEREH)
footprint POWER LED 3WATT-WITH LENS (DESIGNER : ABBAS BASEREH)
footprint POWER LED 20~100W (DESIGNER ABBAS BASEREH)
footprint POWER LED 1WATT-WITH LENS (DESIGNER : ABBAS BASEREH)
footprint POWER LED 1WATT (DESIGNER : ABBAS BASEREH)
pins: 1, 2

## Semi_LED_Red_3
designator D?, comment Inflow: 7142  (hidden comment: Red, 3'mm)
LED; Rating: Rating?; Type: Type?; Validation: Valid; Value: Red, 3'mm; Package: Package?
footprint LED-Red (LED 3mm Right Angle - Color Red)
footprint LED-3mm(RED)
pins: 1, 2

## Semi_LED_Red_5
designator D?, comment Inflow: 5133  (hidden comment: Red, 5'mm)
LED; Rating: Rating?; Type: Type?; Validation: Valid; Value: Red, 5'mm; Package: Package?
footprint LED5MM_Red (LED 5MM THROUGH HOLE RED-Designer Abbas Basereh)
pins: 1, 2

## Semi_LED_Red_1206
designator D?, comment Inflow: 5253  (hidden comment: Red, 1206)
LED; Rating: Rating?; Type: Type?; Validation: Valid; Value: Red, 1206; Package: Package?
footprint LED 1206/3216 RED (Chip Diode, 2-Leads, Body 3.13x1.55mm, IPC Medium Density)
pins: 1, 2

## Semi_LED_RGB_SMD
designator D?, comment Inflow: inflow?  (hidden comment: RGB)
SMD 5050 LED RGB and Other; Rating: Rating?; Type: Type?; Validation: NT; Value: RGB; Package: Package?
footprint SMD_RGB_5050
pins: 1 R+, 2 R-, 3 G+, 4 G-, 5 B+, 6 B-

## Semi_LED_RGB_THT
designator D?, comment Inflow: 5139  (hidden comment: RGB)
SMD 5050 LED RGB and Other; Rating: 5V; Type: CA; Validation: Valid; Package: Dip; Value: RGB
footprint RGB_DIP
pins: 1 R, 2 CA, 3 G, 4 B

## Semi_LED_SK6812
designator D?, comment Inflow: inflow?  (hidden comment: SK6812)
SK6812 is a set of smart control circuit and a light emitting circuit in  one of the controlled LED source.; Rating: Rating?; Type: Type?; Validation: NT; Value: SK6812; Package: Package?
footprint SK6812_5050 (SMT LED)
pins: 1 VSS "Ground", 2 DIN "Control data signal input", 3 VDD "Power supply LED", 4 DOUT "Control data signal output"

## Semi_LED_SMD
designator D?, comment Value?
LED; Inflow: inflow?; Rating: Rating?; Validation: Valid; Package: Package?; Type: LED; Value: Value?
footprint LED 0402/1005 (Chip Diode, 2-Leads, Body 1.00x0.50mm, IPC Medium Density)
footprint LED 0402/1005 BLUE (Chip Diode, 2-Leads, Body 1.00x0.50mm, IPC Medium Density)
footprint LED 0402/1005 GREEN (Chip Diode, 2-Leads, Body 1.00x0.50mm, IPC Medium Density)
footprint LED 0402/1005 RED (Chip Diode, 2-Leads, Body 1.00x0.50mm, IPC Medium Density)
footprint LED 0402/1005 YELLOW (Chip Diode, 2-Leads, Body 1.00x0.50mm, IPC Medium Density)
footprint LED 0603/1608 (Chip Diode, 2-Leads, Body 1.60x0.80mm, IPC Medium Density)
footprint LED 0603/1608 BLUE (Chip Diode, 2-Leads, Body 1.60x0.80mm, IPC Medium Density)
footprint LED 0603/1608 GREEN (Chip Diode, 2-Leads, Body 1.60x0.80mm, IPC Medium Density)
footprint LED 0603/1608 RED (Chip Diode, 2-Leads, Body 1.60x0.80mm, IPC Medium Density)
footprint LED 0603/1608 YELLOW (Chip Diode, 2-Leads, Body 1.60x0.80mm, IPC Medium Density)
footprint LED 0805/2012 (Chip Diode, 2-Leads, Body 2.00x1.25mm, IPC Medium Density)
footprint LED 0805/2012 BLUE (Chip Diode, 2-Leads, Body 2.00x1.25mm, IPC Medium Density)
footprint LED 0805/2012 GREEN (Chip Diode, 2-Leads, Body 2.00x1.25mm, IPC Medium Density)
footprint LED 0805/2012 RED (Chip Diode, 2-Leads, Body 2.00x1.25mm, IPC Medium Density)
footprint LED 0805/2012 YELLOW (Chip Diode, 2-Leads, Body 2.00x1.25mm, IPC Medium Density)
footprint LED 1206/3216 (Chip Diode, 2-Leads, Body 3.13x1.55mm, IPC Medium Density)
footprint LED 1206/3216 BLUE (Chip Diode, 2-Leads, Body 3.13x1.55mm, IPC Medium Density)
footprint LED 1206/3216 GREEN (Chip Diode, 2-Leads, Body 3.13x1.55mm, IPC Medium Density)
footprint LED 1206/3216 RED (Chip Diode, 2-Leads, Body 3.13x1.55mm, IPC Medium Density)
footprint LED 1206/3216 YELLOW (Chip Diode, 2-Leads, Body 3.13x1.55mm, IPC Medium Density)
footprint LED_0805_BLUE (Surface mount LED 0805)
footprint LED_0805_WHITE (Surface mount LED 0805)
footprint LED_0805_Red (Surface mount LED 0805)
footprint LED_0805_GREEN (Surface mount LED 0805)
footprint LED_0402 (Surface mount LED 0402)
footprint LED_0603 (Surface mount LED 0603)
pins: 1, 2

## Semi_LED_SMD_5050
designator D?, comment Inflow: inflow?  (hidden comment: Color)
LED SMD; Rating: Rating?; Type: Type?; Validation: NT; Value: Color; Package: Package?
footprint LED_5050 (SMT LED)
footprint LED_5050_PAD (SMT LED)
pins: 1 K1, 2 K2, 3 K3, 4 A3, 5 A2, 6 A1

## Semi_LED_SMD_5730
designator D?, comment Inflow: inflow?  (hidden comment: Color)
LED SMD 0.5WATT; Rating: Rating?; Type: Type?; Validation: NT; Value: Color; Package: Package?
footprint LED_5730_BLUE (SMT LED 5730 Package)
footprint LED_5730_Red (SMT LED 5730 Package)
footprint LED_5730_Green (SMT LED 5730 Package)
footprint LED_5730_White (SMT LED 5730 Package)
pins: 1, 2

## Semi_LED_THT
designator D?, comment Inflow: inflow?  (hidden comment: Value?)
LED; Rating: Rating?; Type: Type?; Validation: Valid; Value: Value?; Package: Dip
footprint LED 5mm
footprint led-3mm
footprint LED5MM_BLUE (LED 5MM THROUGH HOLE BLUE-Designer Abbas Basereh)
footprint LED5MM_Red (LED 5MM THROUGH HOLE RED-Designer Abbas Basereh)
footprint LED5MM_Yellow (LED 5MM THROUGH HOLE YELLOW-Designer Abbas Basereh)
footprint LED5MM_GRN (LED 5MM THROUGH HOLE GREEN-Designer Abbas Basereh)
footprint LED-Green (LED 3mm Right Angle - Color Green)
footprint LED-Red (LED 3mm Right Angle - Color Red)
footprint LED-Yellow (LED 3mm Right Angle - Color Yellow)
footprint led
footprint LED-0 (LED; 2 Leads)
footprint LED-1 (LED; 2 Leads)
footprint led5mm
footprint LED3mm
footprint LED-5mm(WHITE)
footprint LED-5mm(BLUE)
footprint LED-3mm(RED)
footprint led5mm_blue
pins: 1, 2

## Semi_LED_White_5
designator D?, comment Inflow: 8142  (hidden comment: White, 5'mm)
LED; Rating: Rating?; Type: Type?; Validation: NT; Value: White, 5'mm; Package: Package?
footprint led5mm_white
pins: 1, 2

## Semi_LED_White_1206
designator D?, comment Inflow: 5242  (hidden comment: White, 1206)
LED; Rating: Rating?; Type: Type?; Validation: Valid; Value: White, 1206; Package: Package?
footprint LED 1206/3216 (Chip Diode, 2-Leads, Body 3.13x1.55mm, IPC Medium Density)
pins: 1, 2

## Semi_LED_WS2812B
designator D?, comment Inflow: inflow?  (hidden comment: WS2812)
WS2812 Addressable RGB; Rating: Rating?; Validation: NT; Value: WS2812; Package: SMD; Type: RGB
footprint WS2812B
pins: 1-VDD VDD "Power supply LED", 2-DOUT DOUT "Control data signal output", 3-GND VSS "Ground", 4-DIN DIN "Control data signal input"

## Semi_LED_Yellow_3
designator D?, comment Inflow: 7145  (hidden comment: Yellow)
LED; Rating: Rating?; Validation: Valid; Value: Yellow; Package: 3mm; Type: LED
footprint LED-3mm_Yellow
pins: 1, 2

## Semi_LED_Yellow_5
designator D?, comment Inflow: 5130  (hidden comment: Yellow, 5'mm)
LED; Rating: Rating?; Type: Type?; Validation: Valid; Value: Yellow, 5'mm; Package: Package?
footprint LED5MM_Yellow (LED 5MM THROUGH HOLE YELLOW-Designer Abbas Basereh)
pins: 1, 2

## Semi_LED_Yellow_1206
designator D?, comment Inflow: 5250  (hidden comment: Yellow, 1206)
LED; Rating: Rating?; Type: Type?; Validation: Valid; Value: Yellow, 1206; Package: Package?
footprint LED 1206/3216 YELLOW (Chip Diode, 2-Leads, Body 3.13x1.55mm, IPC Medium Density)
pins: 1, 2

## Semi_MOSFET_2N7002
designator Q?, comment Inflow: 5238  (hidden comment: N-Channel)
N-Channel MOSFET; Rating: Rating?; Type: Type?; Validation: Valid; Value: N-Channel; Package: Package?
footprint SOT23_N (SOT23, 3-Leads, Body 2.9x1.3mm, Pitch 0.95mm, Lead Span 2.3mm, IPC Medium Density)
footprint SOT23_L (SOT23, 3-Leads, Body 2.9x1.3mm, Pitch 0.95mm, Lead Span 2.3mm, IPC High Density)
footprint SOT23_M (SOT23, 3-Leads, Body 2.9x1.3mm, Pitch 0.95mm, Lead Span 2.3mm, IPC Low Density)
pins: 1 G, 2 S, 3 D

## Semi_MOSFET_AO3416
designator Q?, comment Inflow: inflow?  (hidden comment: Value?)
N-Channel MOSFET; Rating: Rating?; Validation: Valid; Value: Value?; Package: SOT23; Type: N-Channel
footprint SOT23_N (SOT23, 3-Leads, Body 2.9x1.3mm, Pitch 0.95mm, Lead Span 2.3mm, IPC Medium Density)
footprint SOT23_L (SOT23, 3-Leads, Body 2.9x1.3mm, Pitch 0.95mm, Lead Span 2.3mm, IPC High Density)
footprint SOT23_M (SOT23, 3-Leads, Body 2.9x1.3mm, Pitch 0.95mm, Lead Span 2.3mm, IPC Low Density)
pins: 1 G, 2 S, 3 D

## Semi_MOSFET_AOD472
designator Q?, comment AOD472
P-Channel MOSFET 30V 70A TO-252 (DPAK; Validation: NT; Rating: Rating?; Type: P-Mos; Inflow: inflow?; Package: DPACK; Value: AOD472
footprint TO252-3L (D-PAK, 3-Pads, Body 6.2x6.7mm (max), IPC High Density)
footprint TO252-3M (D-PAK, 3-Pads, Body 6.2x6.7mm (max), IPC Low Density)
footprint TO252-3N (D-PAK, 3-Pads, Body 6.2x6.7mm (max), IPC Medium Density)
pins: 1 G, 3 S, 4 D

## Semi_MOSFET_DMP34M4SPS-13
designator Q?, comment Inflow: Inflow?  (hidden comment: Value?)
P-Channel Mosfet; Rating: 30V-87A; Validation: NT; Type: P-Channel; Package: PowerDI5060-8; Value: Value?
footprint WPAK_8S (WPAK, POWERPAK SO-8 1.27mm pitch Single)
pins: 1 G, 2 D, 3 S

## Semi_MOSFET_FDD6690A
designator Q?, comment Inflow: inflow?  (hidden comment: FDD6690A)
N-channel MOSFET; Rating: Rating?; Validation: NT; Value: FDD6690A; Package: Package?; Type: N-Channel
footprint TO252-3L (D-PAK, 3-Pads, Body 6.2x6.7mm (max), IPC High Density)
footprint TO252-3M (D-PAK, 3-Pads, Body 6.2x6.7mm (max), IPC Low Density)
footprint TO252-3N (D-PAK, 3-Pads, Body 6.2x6.7mm (max), IPC Medium Density)
pins: 1 G, 3 S, 4 D

## Semi_MOSFET_IRF9Z24
designator Q?, comment Inflow: 5324  (hidden comment: P-Channel)
P-Channel MOSFET; Rating: Rating?; Type: Type?; Validation: NT; Value: P-Channel; Package: Package?
footprint TO-220 AB with heatsink ya25 (Epoxy meets UL94, V0-Design:Abbas Basereh)
footprint TO-220 AB WITH HEAT SINK ASM (-Design:Abbas Basereh)
footprint TO-220 AB WITH HEAT SINK (Epoxy meets UL94, V0-Design:Abbas Basereh)
footprint TO-220 AB S (Epoxy meets UL94, V0-Design:Abbas Basereh)
footprint TO-220 AB (TO-220AB, Thru-Hole, Vertical, Heatsink Mounted; 3 In-Line Leads; Pitch 2.54 mm)
pins: 1 G, 2 D, 3 S

## Semi_MOSFET_IRF150
designator Q?, comment Inflow: 5115  (hidden comment: N-Channel)
N-Channel Power MOSFET; Rating: Rating?; Type: Type?; Validation: NT; Value: N-Channel; Package: Package?
footprint TO-247 (SIP with Mounting Hole; 3 Leads; Body 20 x 15.6 x 5 mm (typ); Pitch 5.45 mm)
footprint TO-247FP (TO, Thru-Hole, Vertical, Heatsink Mounted; 3 In-Line Leads; Pitch 5.45 mm)
pins: 1 G, 2 D, 3 S

## Semi_MOSFET_IRF540
designator Q?, comment Inflow: 5103  (hidden comment: N-Channel)
N-Channel Power MOSFET; Rating: Rating?; Type: Type?; Validation: NT; Value: N-Channel; Package: Package?
footprint TO-220 AB (Epoxy meets UL94, V0-Design:Abbas Basereh)
footprint TO-220 AB S (Epoxy meets UL94, V0-Design:Abbas Basereh)
footprint TO-220 AB WITH HEAT SINK (Epoxy meets UL94, V0-Design:Abbas Basereh)
footprint TO-220 AB WITH HEAT SINK ASM (-Design:Abbas Basereh)
footprint TO-220 AB with heatsink ya25 (Epoxy meets UL94, V0-Design:Abbas Basereh)
pins: 1 G, 2 D, 3 S

## Semi_MOSFET_IRF630
designator Q?, comment Inflow: 5112  (hidden comment: N-Channel)
N-Channel Power MOSFET; Rating: Rating?; Type: Type?; Validation: NT; Value: N-Channel; Package: Package?
footprint TO-220 AB (Epoxy meets UL94, V0-Design:Abbas Basereh)
footprint TO-220 AB S (Epoxy meets UL94, V0-Design:Abbas Basereh)
footprint TO-220 AB WITH HEAT SINK (Epoxy meets UL94, V0-Design:Abbas Basereh)
footprint TO-220 AB WITH HEAT SINK ASM (-Design:Abbas Basereh)
footprint TO-220 AB with heatsink ya25 (Epoxy meets UL94, V0-Design:Abbas Basereh)
pins: 1 G, 2 D, 3 S

## Semi_MOSFET_IRF740
designator Q?, comment Inflow: 5109  (hidden comment: N-Channel)
N-Channel Power MOSFET; Rating: Rating?; Type: Type?; Validation: NT; Value: N-Channel; Package: Package?
footprint TO-220 AB (Epoxy meets UL94, V0-Design:Abbas Basereh)
footprint TO-220 AB S (Epoxy meets UL94, V0-Design:Abbas Basereh)
footprint TO-220 AB WITH HEAT SINK (Epoxy meets UL94, V0-Design:Abbas Basereh)
footprint TO-220 AB WITH HEAT SINK ASM (-Design:Abbas Basereh)
footprint TO-220 AB with heatsink ya25 (Epoxy meets UL94, V0-Design:Abbas Basereh)
pins: 1 G, 2 D, 3 S

## Semi_MOSFET_IRF2807
designator Q?, comment Inflow: 4530  (hidden comment: N-Channel)
N-Channel Power MOSFET; Rating: Rating?; Type: Type?; Validation: NT; Value: N-Channel; Package: Package?
footprint TO-220 AB (Epoxy meets UL94, V0-Design:Abbas Basereh)
footprint TO-220 AB S (Epoxy meets UL94, V0-Design:Abbas Basereh)
footprint TO-220 AB WITH HEAT SINK (Epoxy meets UL94, V0-Design:Abbas Basereh)
footprint TO-220 AB WITH HEAT SINK ASM (-Design:Abbas Basereh)
footprint TO-220 AB with heatsink ya25 (Epoxy meets UL94, V0-Design:Abbas Basereh)
footprint TO-220 AB - Bent (TO-220AB, Thru-Hole, Vertical, Heatsink Mounted; 3 In-Line Leads; Pitch 2.54 mm)
pins: 1 G, 2 D, 3 S

## Semi_MOSFET_IRF4905S
designator Q?, comment Inflow: inflow?  (hidden comment: IRF4905S)
P-Channel MOSFET; Rating: Rating?; Validation: Valid; Type: P-Channel; Package: TO-263; Value: IRF4905S
footprint TO-263 (L7800CD2T _ D2-PAK/TO-263-AB; 3 Leads (1 Cropped); Body 15.9 (inc. leads) x 10.4 mm (LxW max))
pins: 1 G, 3 S, 4 D

## Semi_MOSFET_IRF7307
designator Q?, comment Inflow: inflow?  (hidden comment: IRF7307)
NP-CHannel MOSFET; Rating: Rating?; Type: Type?; Validation: Valid; Value: IRF7307; Package: Package?
footprint SO-8N (SOIC, 8-Leads, Body 4/89x3/90mm, Pitch 1/27mm, IPC Medium Density designer:abbas basereh)
footprint SOP-8_L (8-Pin Small Outline Integrated Circuit 1.27 mm Pitch, IPC High Density)
footprint SOP-8_N (8-Pin Small Outline Integrated Circuit 1.27 mm Pitch, IPC Medium Density)
footprint SOP-8_M (8-Pin Small Outline Integrated Circuit 1.27 mm Pitch, IPC Low Density)
part A pins: 3 S2, 4 G2, 5 D2, 6 D2
part B pins: 1 S1, 2 G1, 7 D1, 8 1
part A text: P
part B text: N

## Semi_MOSFET_IRF7416
designator Q?, comment Inflow: Inflow?  (hidden comment: Value?)
P-Channel Mosfet; Rating: 30V-10A; Validation: Valid; Type: P-Channel; Package: SOIC-8; Value: Value?
footprint SO8_MOSFET_M (8-Pin Small Outline Package (SO8), IPC Low Density)
footprint SO8_MOSFET_N (8-Pin Small Outline Package (SO8), IPC Medium Density)
footprint SO8_MOSFET_L (8-Pin Small Outline Package (SO8), IPC High Density)
pins: 1 G, 2 D, 3 S

## Semi_MOSFET_IRF7821
designator Q?, comment Inflow: Inflow?  (hidden comment: Value?)
Dual N Channel Mosfet; Type: N-Channel; Rating: 30V-13A; Validation: Valid; Package: SOIC-8; Value: Value?
footprint SO8_MOSFET_M (8-Pin Small Outline Package (SO8), IPC Low Density)
footprint SO8_MOSFET_N (8-Pin Small Outline Package (SO8), IPC Medium Density)
footprint SO8_MOSFET_L (8-Pin Small Outline Package (SO8), IPC High Density)
pins: 1 G, 2 D, 3 S

## Semi_MOSFET_IRFP460
designator Q?, comment Inflow: 5318  (hidden comment: N-Channel)
N-Channel Power MOSFET; Rating: Rating?; Type: Type?; Validation: NT; Value: N-Channel; Package: Package?
footprint TO-247 (SIP with Mounting Hole; 3 Leads; Body 20 x 15.6 x 5 mm (typ); Pitch 5.45 mm)
footprint TO-247FP (TO, Thru-Hole, Vertical, Heatsink Mounted; 3 In-Line Leads; Pitch 5.45 mm)
footprint IRFP460-NMOS
pins: 1 G, 2 D, 3 S

## Semi_MOSFET_PMV45EN
designator Q?, comment Inflow: inflow?  (hidden comment: N-Channel)
N-Channel MOSFET; Rating: Rating?; Type: Type?; Validation: NT; Value: N-Channel; Package: Package?
footprint SOT23_N (SOT23, 3-Leads, Body 2.9x1.3mm, Pitch 0.95mm, Lead Span 2.3mm, IPC Medium Density)
footprint SOT23_L (SOT23, 3-Leads, Body 2.9x1.3mm, Pitch 0.95mm, Lead Span 2.3mm, IPC High Density)
footprint SOT23_M (SOT23, 3-Leads, Body 2.9x1.3mm, Pitch 0.95mm, Lead Span 2.3mm, IPC Low Density)
pins: 1 G, 2 S, 3 D

## Semi_MOSFET_Si2301DS
designator Q?, comment Inflow: 6208  (hidden comment: P-Channel)
P-Channel MOSFET; Rating: Rating?; Type: Type?; Validation: NT; Value: P-Channel; Package: Package?
footprint SOT23_N (SOT23, 3-Leads, Body 2.9x1.3mm, Pitch 0.95mm, Lead Span 2.3mm, IPC Medium Density)
footprint SOT23_L (SOT23, 3-Leads, Body 2.9x1.3mm, Pitch 0.95mm, Lead Span 2.3mm, IPC High Density)
footprint SOT23_M (SOT23, 3-Leads, Body 2.9x1.3mm, Pitch 0.95mm, Lead Span 2.3mm, IPC Low Density)
pins: 1 G, 2 S, 3 D

## Semi_MOSFET_TSM4NB60
designator Q?, comment Inflow: 5321  (hidden comment: N-Channel)
N-Channel Power MOSFET; Rating: Rating?; Type: Type?; Validation: NT; Value: N-Channel; Package: Package?
footprint TO-220 AB (Epoxy meets UL94, V0-Design:Abbas Basereh)
footprint TO-220 AB S (Epoxy meets UL94, V0-Design:Abbas Basereh)
footprint TO-220 AB WITH HEAT SINK (Epoxy meets UL94, V0-Design:Abbas Basereh)
footprint TO-220 AB WITH HEAT SINK ASM (-Design:Abbas Basereh)
footprint TO-220 AB with heatsink ya25 (Epoxy meets UL94, V0-Design:Abbas Basereh)
pins: 1 G, 2 D, 3 S

## Semi_MOSFET_TSM7401
designator Q?, comment Inflow: 5227  (hidden comment: N-Channel)
Dual N-Channel Mosfet; Rating: Rating?; Type: Type?; Validation: Valid; Value: N-Channel; Package: Package?
footprint SO-8N (SOIC, 8-Leads, Body 4/89x3/90mm, Pitch 1/27mm, IPC Medium Density designer:abbas basereh)
pins: 1 S, 2 S, 3 S, 4 G, 5 D, 6 D, 7 D, 8 D

## Semi_SCR_BT151
designator Q?, comment Inflow: 4521  (hidden comment: BT151)
Thyristors; Rating: Rating?; Type: Type?; Validation: NT; Value: BT151; Package: Package?
footprint TO-220 AB (Epoxy meets UL94, V0-Design:Abbas Basereh)
footprint TO-220 AB S (Epoxy meets UL94, V0-Design:Abbas Basereh)
footprint TO-220 AB WITH HEAT SINK (Epoxy meets UL94, V0-Design:Abbas Basereh)
footprint TO-220 AB WITH HEAT SINK ASM (-Design:Abbas Basereh)
footprint TO-220 AB with heatsink ya25 (Epoxy meets UL94, V0-Design:Abbas Basereh)
pins: 1 K, 2 A, 3 G

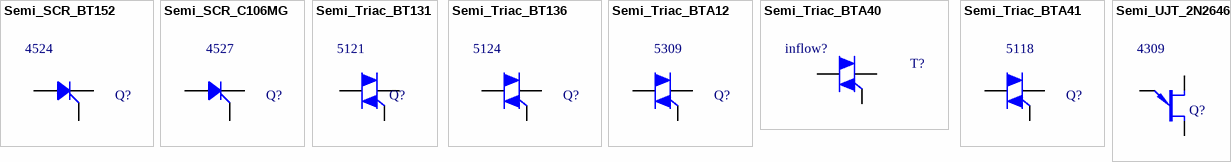
[diagram p3: symbols Semi_SCR_BT152 to Semi_UJT_2N2646]

## Semi_SCR_BT152
designator Q?, comment Inflow: 4524  (hidden comment: BT152)
Thyristors; Rating: Rating?; Type: Type?; Validation: NT; Value: BT152; Package: Package?
footprint TO-220 AB (Epoxy meets UL94, V0-Design:Abbas Basereh)
footprint TO-220 AB S (Epoxy meets UL94, V0-Design:Abbas Basereh)
footprint TO-220 AB WITH HEAT SINK (Epoxy meets UL94, V0-Design:Abbas Basereh)
footprint TO-220 AB WITH HEAT SINK ASM (-Design:Abbas Basereh)
footprint TO-220 AB with heatsink ya25 (Epoxy meets UL94, V0-Design:Abbas Basereh)
pins: 1 K, 2 A, 3 G

## Semi_SCR_C106MG
designator Q?, comment Inflow: 4527  (hidden comment: C106MG)
Thyristors; Rating: Rating?; Type: Type?; Validation: NT; Value: C106MG; Package: Package?
footprint TO-126 (SOT32) Gold pcb (Design:Abbas Basereh)
footprint TO-126 (SOT32) Gold pcb with hatsink (Design:Abbas Basereh)
pins: 1 K, 2 A, 3 G

## Semi_Triac_BT131
designator Q?, comment Inflow: 5121  (hidden comment: BT131)
Triacs; Rating: Rating?; Type: Type?; Validation: NT; Value: BT131; Package: Package?
footprint TO-92 Bent (DESIGNER :ABBAS BASEREH)
footprint TO-92 CF (DESIGNER :ABBAS BASEREH)
footprint TO-92 STR (DESIGNER :ABBAS BASEREH)
pins: 1 T1, 2 T2, 3 G